# Altium schematic symbol library 691 325 110 0xx.SchLib: 6 symbols
Pins are listed as number, name and electrical type; pins without a type are passive.

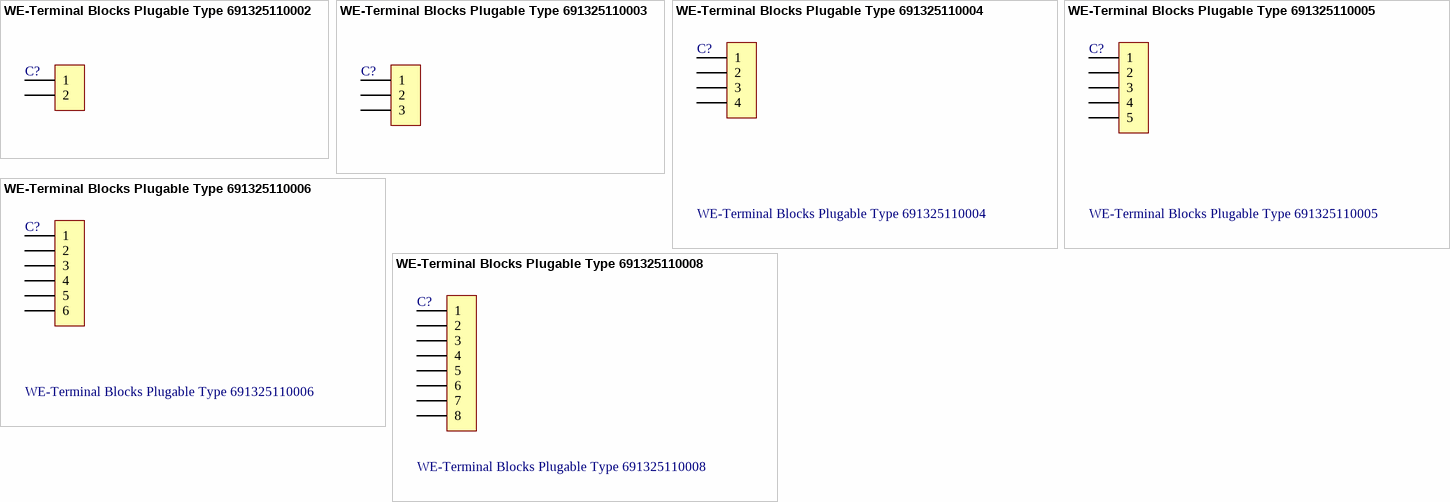
[diagram p0: symbols WE-Terminal Blocks Plugable Type 691325110002 to WE-Terminal Blocks Plugable Type 691325110008]

## WE-Terminal Blocks Plugable Type 691325110002
designator C?
WR-TBL Terminal block - serie 3251 - 3.50 mm; Manufacturer: Würth Elektronik eiSos GmbH; ComponentLink1 Description: Manufacturer; ComponentLink2 Description: Datasheet; NoPins: 2; Created Date: 10 December 2013; partNo: 691325110002; ComponentLink1URL: http://www.we-online.com; ComponentLink2URL: http://katalog.we-online.de/em/datasheet/6913251100xx.pdf; Created by: Karrer Zheng
footprint 691325110002 (3,50mm - PCB Horizontal With flanges - 02p)
pins: 1, 2

## WE-Terminal Blocks Plugable Type 691325110003
designator C?
WR-TBL Terminal block - serie 3251 - 3.50 mm; Manufacturer: Würth Elektronik eiSos GmbH; ComponentLink1 Description: Manufacturer; ComponentLink2 Description: Datasheet; NoPins: 3; Created Date: 10 December 2013; partNo: 691325110003; ComponentLink1URL: http://www.we-online.com; ComponentLink2URL: http://katalog.we-online.de/em/datasheet/6913251100xx.pdf; Created by: Karrer Zheng
footprint 691325110003 (3,50mm - PCB Horizontal With flanges - 03p)
pins: 1, 2, 3

## WE-Terminal Blocks Plugable Type 691325110004
designator C?
WR-TBL Terminal block - serie 3251 - 3.50 mm; Manufacturer: Würth Elektronik eiSos GmbH; ComponentLink1 Description: Manufacturer; ComponentLink2 Description: Datasheet; NoPins: 4; Created Date: 10 December 2013; partNo: 691325110004; ComponentLink1URL: http://www.we-online.com; ComponentLink2URL: http://katalog.we-online.de/em/datasheet/6913251100xx.pdf; Created by: Karrer Zheng
footprint 691325110004 (3,50mm - PCB Horizontal With flanges - 04p)
pins: 1, 2, 3, 4

## WE-Terminal Blocks Plugable Type 691325110005
designator C?
WR-TBL Terminal block - serie 3251 - 3.50 mm; Manufacturer: Würth Elektronik eiSos GmbH; ComponentLink1 Description: Manufacturer; ComponentLink2 Description: Datasheet; NoPins: 5; Created Date: 10 December 2013; partNo: 691325110005; ComponentLink1URL: http://www.we-online.com; ComponentLink2URL: http://katalog.we-online.de/em/datasheet/6913251100xx.pdf; Created by: Karrer Zheng
footprint 691325110005 (3,50mm - PCB Horizontal With flanges - 05p)
pins: 1, 2, 3, 4, 5

## WE-Terminal Blocks Plugable Type 691325110006
designator C?
WR-TBL Terminal block - serie 3251 - 3.50 mm; Manufacturer: Würth Elektronik eiSos GmbH; ComponentLink1 Description: Manufacturer; ComponentLink2 Description: Datasheet; NoPins: 6; Created Date: 10 December 2013; partNo: 691325110006; ComponentLink1URL: http://www.we-online.com; ComponentLink2URL: http://katalog.we-online.de/em/datasheet/6913251100xx.pdf; Created by: Karrer Zheng
footprint 691325110006 (3,50mm - PCB Horizontal With flanges - 06p)
pins: 1, 2, 3, 4, 5, 6

## WE-Terminal Blocks Plugable Type 691325110008
designator C?
WR-TBL Terminal block - serie 3251 - 3.50 mm; Manufacturer: Würth Elektronik eiSos GmbH; ComponentLink1 Description: Manufacturer; ComponentLink2 Description: Datasheet; NoPins: 8; Created Date: 10 December 2013; partNo: 691325110008; ComponentLink1URL: http://www.we-online.com; ComponentLink2URL: http://katalog.we-online.de/em/datasheet/6913251100xx.pdf; Created by: Karrer Zheng
footprint 691325110008 (3,50mm - PCB Horizontal With flanges - 08p)
pins: 1, 2, 3, 4, 5, 6, 7, 8